# Altium footprint library Power Management Linear Regulator.PcbLib: 77 footprints (part 1 of 5)
Each footprint in its own frame and in the unit in brackets; x right, y up, seen from the top. Pads: shape width x height; smd on the part's side, far side on the other; paste and mask are expansions set on the pad; w line width, h text height; cw(c..) or ccw(c..) is an arc to the next point about the centre after c.
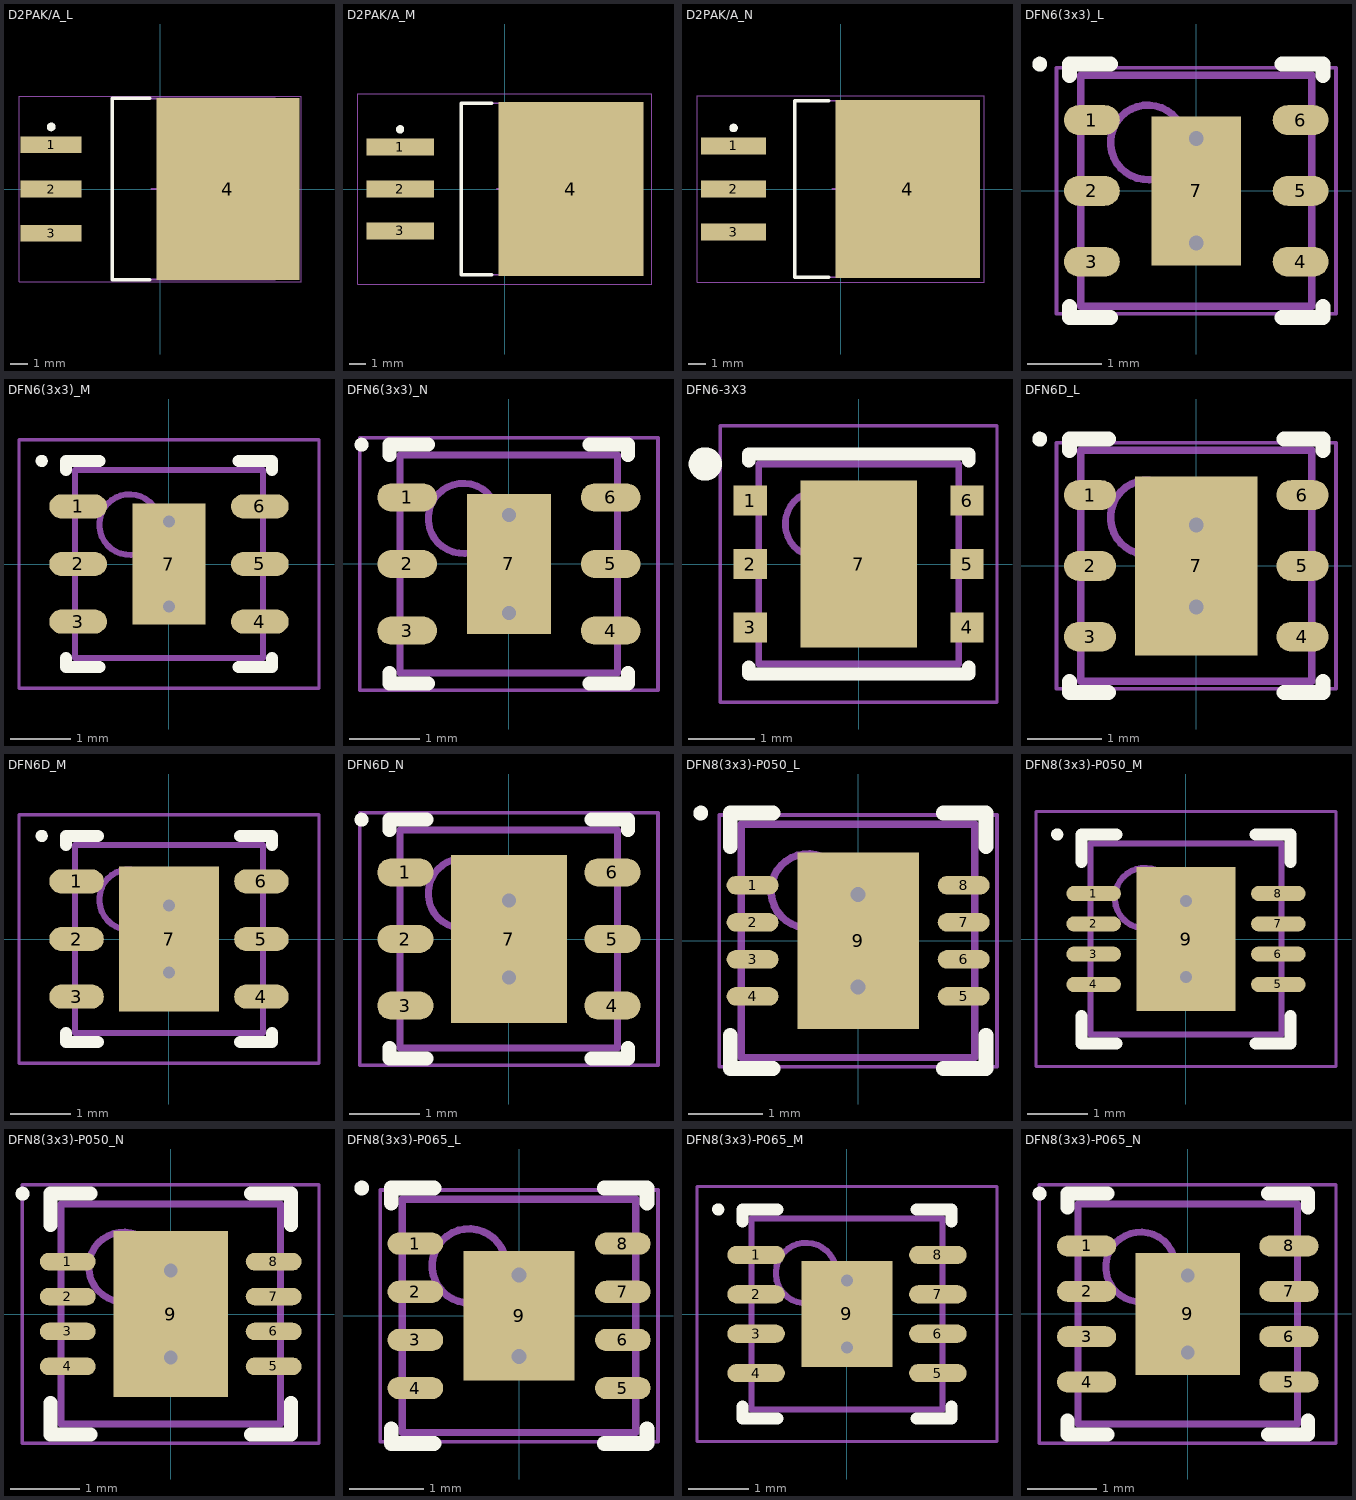
[diagram p0: the footprints below, top view; thin cyan lines are the x and y axes]

## D2PAK/A_L [mm] "D2-PAK, 4-Leads, Body 9.2x10.2mm, Pitch 2.54mm, Lead Span 15.4mm, IPC High Density"
height 4.6
pads (4):
  rect 3.5x0.95 smd: 1(-6.25,2.54) 2(-6.25,0) 3(-6.25,-2.54)
  rect 8.2x10.45 smd: 4(3.9,0)
Top Overlay:
  circle w0.25: c-6.25,3.565 r0.125
  lines w0.2: -0.6,-5.2 -2.75,-5.2 -2.75,5.2 -0.6,5.2
Mechanical 13:
  lines w0.1: -2.75,-5.2 6.6,-5.2 6.6,5.2 -2.75,5.2 -2.75,-5.2
Mechanical 15:
  lines w0.05: -8.1,-5.325 8.1,-5.325 8.1,5.325 -8.1,5.325 -8.1,-5.325
  lines w0.1: -0.5,0 0.5,0 ; 0,-0.5 0,0.5

## D2PAK/A_M [mm] "D2-PAK, 4-Leads, Body 9.2x10.2mm, Pitch 2.54mm, Lead Span 15.4mm, IPC Low Density"
height 4.6
pads (4):
  rect 4.1x1.05 smd: 1(-6.35,2.54) 2(-6.35,0) 3(-6.35,-2.54)
  rect 8.8x10.55 smd: 4(4,0)
Top Overlay:
  circle w0.25: c-6.35,3.615 r0.125
  lines w0.2: -0.8,-5.2 -2.65,-5.2 -2.65,5.2 -0.8,5.2
Mechanical 13:
  lines w0.1: -2.65,-5.2 -2.65,5.2 6.7,5.2 6.7,-5.2 -2.65,-5.2
Mechanical 15:
  lines w0.05: -8.9,-5.775 -8.9,5.775 8.9,5.775 8.9,-5.775 -8.9,-5.775
  lines w0.1: -0.5,0 0.5,0 ; 0,-0.5 0,0.5
3D body: height 4.6, standoff 0.03, extent -2.65,-5.2 6.7,5.2

## D2PAK/A_N [mm] "D2-PAK, 4-Leads, Body 9.2x10.2mm, Pitch 2.54mm, Lead Span 15.4mm, IPC Medium Density"
height 4.6
pads (4):
  rect 3.8x1 smd: 1(-6.3,2.54) 2(-6.3,0) 3(-6.3,-2.54)
  rect 8.5x10.5 smd: 4(3.95,0)
Top Overlay:
  circle w0.25: c-6.3,3.59 r0.125
  lines w0.2: -0.7,-5.2 -2.7,-5.2 -2.7,5.2 -0.7,5.2
Mechanical 13:
  lines w0.1: -2.7,-5.2 -2.7,5.2 6.65,5.2 6.65,-5.2 -2.7,-5.2
Mechanical 15:
  lines w0.05: -8.45,-5.5 -8.45,5.5 8.45,5.5 8.45,-5.5 -8.45,-5.5
  lines w0.1: -0.5,0 0.5,0 ; 0,-0.5 0,0.5
3D body: height 4.6, standoff 0.03, extent -2.7,-5.2 6.65,5.2

## DFN6(3x3)_L [mm] "SON, 6-Leads, Body 3x3mm, Pitch 0.95mm, Thermal Pad 2x1.2mm, IPC High Density"
height 1
pads (7):
  oval 0.75x0.4 smd: 1(-1.4,0.95) 2(-1.4,0) 3(-1.4,-0.95) 4(1.4,-0.95) 5(1.4,0) 6(1.4,0.95)
  rect 1.2x2 smd paste-0.6 mask+0.051: 7(0,0)
via 0,0.7 diameter 0.5 hole 0.2
via 0,-0.7 diameter 0.5 hole 0.2
Top Overlay:
  circle w0.1: c-2.1,1.7 r0.05
  lines w0.2: -1.7,-1.55 -1.7,-1.7 -1.15,-1.7 ; -1.7,1.55 -1.7,1.7 -1.15,1.7 ; 1.15,-1.7 1.7,-1.7 1.7,-1.55 ; 1.15,1.7 1.7,1.7 1.7,1.55
Top Paste:
  rectangle: -0.57,-0.95 0.57,0.95
Mechanical 13:
  circle w0.1: c-0.65,0.65 r0.5
  lines w0.1: -1.55,-1.55 -1.55,1.55 1.55,1.55 1.55,-1.55 -1.55,-1.55
Mechanical 15:
  lines w0.05: -1.875,-1.65 -1.875,1.65 1.875,1.65 1.875,-1.65 -1.875,-1.65
  lines w0.1: -0.5,0 0.5,0 ; 0,-0.5 0,0.5

## DFN6(3x3)_M [mm] "SON, 6-Leads, Body 3x3mm, Pitch 0.95mm, Thermal Pad 2x1.2mm, IPC Low Density"
height 1
pads (7):
  oval 0.95x0.4 smd: 1(-1.5,0.95) 2(-1.5,0) 3(-1.5,-0.95) 4(1.5,-0.95) 5(1.5,0) 6(1.5,0.95)
  rect 1.2x2 smd paste-0.6 mask+0.051: 7(0,0)
via 0,0.7 diameter 0.5 hole 0.2
via 0,-0.7 diameter 0.5 hole 0.2
Top Overlay:
  circle w0.1: c-2.1,1.7 r0.05
  lines w0.2: -1.7,-1.55 -1.7,-1.7 -1.15,-1.7 ; -1.7,1.55 -1.7,1.7 -1.15,1.7 ; 1.15,-1.7 1.7,-1.7 1.7,-1.55 ; 1.15,1.7 1.7,1.7 1.7,1.55
Top Paste:
  rectangle: -0.57,-0.95 0.57,0.95
Mechanical 13:
  circle w0.1: c-0.65,0.65 r0.5
  lines w0.1: -1.55,-1.55 -1.55,1.55 1.55,1.55 1.55,-1.55 -1.55,-1.55
Mechanical 15:
  lines w0.05: -2.475,-2.05 -2.475,2.05 2.475,2.05 2.475,-2.05 -2.475,-2.05
  lines w0.1: -0.5,0 0.5,0 ; 0,-0.5 0,0.5
3D body: height 1, standoff 0, extent -1.55,-1.55 1.55,1.55

## DFN6(3x3)_N [mm] "SON, 6-Leads, Body 3x3mm, Pitch 0.95mm, Thermal Pad 2x1.2mm, IPC Medium Density"
height 1
pads (7):
  oval 0.85x0.4 smd: 1(-1.45,0.95) 2(-1.45,0) 3(-1.45,-0.95) 4(1.45,-0.95) 5(1.45,0) 6(1.45,0.95)
  rect 1.2x2 smd paste-0.6 mask+0.051: 7(0,0)
via 0,0.7 diameter 0.5 hole 0.2
via 0,-0.7 diameter 0.5 hole 0.2
Top Overlay:
  circle w0.1: c-2.1,1.7 r0.05
  lines w0.2: -1.7,-1.55 -1.7,-1.7 -1.15,-1.7 ; -1.7,1.55 -1.7,1.7 -1.15,1.7 ; 1.15,-1.7 1.7,-1.7 1.7,-1.55 ; 1.15,1.7 1.7,1.7 1.7,1.55
Top Paste:
  rectangle: -0.57,-0.95 0.57,0.95
Mechanical 13:
  circle w0.1: c-0.65,0.65 r0.5
  lines w0.1: -1.55,-1.55 1.55,-1.55 1.55,1.55 -1.55,1.55 -1.55,-1.55
Mechanical 15:
  lines w0.05: -2.125,-1.8 2.125,-1.8 2.125,1.8 -2.125,1.8 -2.125,-1.8
  lines w0.1: -0.5,0 0.5,0 ; 0,-0.5 0,0.5
3D body: height 1, standoff 0, extent -1.55,-1.55 1.55,1.55

## DFN6-3X3 [mm] "DFN 6-Leads, Body 3.00x3.00mm, Pitch 0.95mm, Thermal Pad 1.75x2.50mm, IPC Medium Density"
height 0.8
pads (7):
  rect 0.5x0.45 smd: 1(-1.625,0.95) 2(-1.625,0) 3(-1.625,-0.95) 4(1.625,-0.95) 5(1.625,0) 6(1.625,0.95)
  rect 1.75x2.5 smd: 7(0,0)
Top Overlay:
  circle w0.25: c-2.3,1.5 r0.125
  lines w0.2: -1.651,-1.65 1.65,-1.65 1.65,-1.55 ; -1.65,-1.65 -1.65,-1.55 ; -1.65,1.55 -1.65,1.65 1.651,1.65 ; 1.65,1.55 1.65,1.65
Mechanical 13:
  circle w0.1: c-0.6,0.6 r0.5
  lines w0.1: -1.5,-1.5 -1.5,1.5 1.5,1.5 1.5,-1.5 -1.5,-1.5
Mechanical 15:
  lines w0.05: -2.075,-2.075 -2.075,2.075 2.075,2.075 2.075,-2.075 -2.075,-2.075
  lines w0.1: -0.5,0 0.5,0 ; 0,-0.5 0,0.5
3D body "DFN6-3X3.step": height 0.8, standoff 0, extent -1.501,-1.5 1.501,1.5

## DFN6D_L [mm] "SON, 6-Leads, Body 3x3mm, Pitch 0.95mm, Thermal Pad 2.4x1.65mm, IPC High Density"
height 0.95
pads (7):
  oval 0.7x0.4 smd: 1(-1.425,0.95) 2(-1.425,0) 3(-1.425,-0.95) 4(1.425,-0.95) 5(1.425,0) 6(1.425,0.95)
  rect 1.65x2.4 smd: 7(0,0)
via 0,0.55 diameter 0.5 hole 0.2
via 0,-0.55 diameter 0.5 hole 0.2
Top Overlay:
  circle w0.1: c-2.1,1.7 r0.05
  lines w0.2: -1.7,-1.55 -1.7,-1.7 -1.175,-1.7 ; -1.7,1.55 -1.7,1.7 -1.175,1.7 ; 1.175,-1.7 1.7,-1.7 1.7,-1.55 ; 1.175,1.7 1.7,1.7 1.7,1.55
Mechanical 13:
  circle w0.1: c-0.65,0.65 r0.5
  lines w0.1: -1.55,-1.55 -1.55,1.55 1.55,1.55 1.55,-1.55 -1.55,-1.55
Mechanical 15:
  lines w0.05: -1.875,-1.65 -1.875,1.65 1.875,1.65 1.875,-1.65 -1.875,-1.65
  lines w0.1: -0.5,0 0.5,0 ; 0,-0.5 0,0.5
3D body: height 0.95, standoff 0, extent -1.55,-1.55 1.55,1.55

## DFN6D_M [mm] "SON, 6-Leads, Body 3x3mm, Pitch 0.95mm, Thermal Pad 2.4x1.65mm, IPC Low Density"
height 0.95
pads (7):
  oval 0.9x0.4 smd: 1(-1.525,0.95) 2(-1.525,0) 3(-1.525,-0.95) 4(1.525,-0.95) 5(1.525,0) 6(1.525,0.95)
  rect 1.65x2.4 smd: 7(0,0)
via 0,0.55 diameter 0.5 hole 0.2
via 0,-0.55 diameter 0.5 hole 0.2
Top Overlay:
  circle w0.1: c-2.1,1.7 r0.05
  lines w0.2: -1.7,-1.55 -1.7,-1.7 -1.175,-1.7 ; -1.7,1.55 -1.7,1.7 -1.175,1.7 ; 1.175,-1.7 1.7,-1.7 1.7,-1.55 ; 1.175,1.7 1.7,1.7 1.7,1.55
Mechanical 13:
  circle w0.1: c-0.65,0.65 r0.5
  lines w0.1: -1.55,-1.55 -1.55,1.55 1.55,1.55 1.55,-1.55 -1.55,-1.55
Mechanical 15:
  lines w0.05: -2.475,-2.05 -2.475,2.05 2.475,2.05 2.475,-2.05 -2.475,-2.05
  lines w0.1: -0.5,0 0.5,0 ; 0,-0.5 0,0.5
3D body: height 0.95, standoff 0, extent -1.55,-1.55 1.55,1.55

## DFN6D_N [mm] "SON, 6-Leads, Body 3x3mm, Pitch 0.95mm, Thermal Pad 2.4x1.65mm, IPC Medium Density"
height 0.95
pads (7):
  oval 0.8x0.4 smd: 1(-1.475,0.95) 2(-1.475,0) 3(-1.475,-0.95) 4(1.475,-0.95) 5(1.475,0) 6(1.475,0.95)
  rect 1.65x2.4 smd: 7(0,0)
via 0,-0.55 diameter 0.5 hole 0.2
via 0,0.55 diameter 0.5 hole 0.2
Top Overlay:
  circle w0.1: c-2.1,1.7 r0.05
  lines w0.2: -1.7,-1.55 -1.7,-1.7 -1.175,-1.7 ; -1.7,1.55 -1.7,1.7 -1.175,1.7 ; 1.175,-1.7 1.7,-1.7 1.7,-1.55 ; 1.175,1.7 1.7,1.7 1.7,1.55
Mechanical 13:
  circle w0.1: c-0.65,0.65 r0.5
  lines w0.1: -1.55,-1.55 1.55,-1.55 1.55,1.55 -1.55,1.55 -1.55,-1.55
Mechanical 15:
  lines w0.05: -2.125,-1.8 2.125,-1.8 2.125,1.8 -2.125,1.8 -2.125,-1.8
  lines w0.1: -0.5,0 0.5,0 ; 0,-0.5 0,0.5
3D body: height 0.95, standoff 0, extent -1.55,-1.55 1.55,1.55

## DFN8(3x3)-P050_L [mm] "SON, 8-Leads, Body 3x3mm, Pitch 0.5mm, Thermal Pad 2.38x1.64mm, IPC High Density"
height 1
pads (9):
  oval 0.7x0.25 smd: 1(-1.425,0.75) 2(-1.425,0.25) 3(-1.425,-0.25) 4(-1.425,-0.75) 5(1.425,-0.75) 6(1.425,-0.25) 7(1.425,0.25) 8(1.425,0.75)
  rect 1.64x2.38 smd paste-0.82: 9(0,0)
via 0,0.625 diameter 0.5 hole 0.2
via 0,-0.625 diameter 0.5 hole 0.2
Top Overlay:
  circle w0.1: c-2.125,1.725 r0.05
  lines w0.2: -1.725,-1.275 -1.725,-1.725 -1.15,-1.725 ; -1.725,1.275 -1.725,1.725 -1.15,1.725 ; 1.15,-1.725 1.725,-1.725 1.725,-1.275 ; 1.15,1.725 1.725,1.725 1.725,1.275
Top Paste:
  rectangle: -0.725,-1.15 0.725,-0.725
  rectangle: -0.725,-0.525 0.725,-0.1
  rectangle: -0.725,0.725 0.725,1.15
  rectangle: -0.725,0.1 0.725,0.525
Mechanical 13:
  circle w0.1: c-0.675,0.675 r0.5
  lines w0.1: -1.575,-1.575 1.575,-1.575 1.575,1.575 -1.575,1.575 -1.575,-1.575
Mechanical 15:
  lines w0.05: -1.875,-1.7 1.875,-1.7 1.875,1.7 -1.875,1.7 -1.875,-1.7
  lines w0.1: -0.5,0 0.5,0 ; 0,-0.5 0,0.5
3D body: height 1, standoff 0, extent -1.575,-1.575 1.575,1.575

## DFN8(3x3)-P050_M [mm] "SON, 8-Leads, Body 3x3mm, Pitch 0.5mm, Thermal Pad 2.38x1.64mm, IPC Low Density"
height 1
pads (9):
  oval 0.9x0.25 smd: 1(-1.525,0.75) 2(-1.525,0.25) 3(-1.525,-0.25) 4(-1.525,-0.75) 5(1.525,-0.75) 6(1.525,-0.25) 7(1.525,0.25) 8(1.525,0.75)
  rect 1.64x2.38 smd paste-0.82: 9(0,0)
via 0,0.625 diameter 0.5 hole 0.2
via 0,-0.625 diameter 0.5 hole 0.2
Top Overlay:
  circle w0.1: c-2.125,1.725 r0.05
  lines w0.2: -1.725,-1.275 -1.725,-1.725 -1.15,-1.725 ; -1.725,1.275 -1.725,1.725 -1.15,1.725 ; 1.15,-1.725 1.725,-1.725 1.725,-1.275 ; 1.15,1.725 1.725,1.725 1.725,1.275
Top Paste:
  rectangle: -0.725,-1.15 0.725,-0.725
  rectangle: -0.725,-0.525 0.725,-0.1
  rectangle: -0.725,0.725 0.725,1.15
  rectangle: -0.725,0.1 0.725,0.525
Mechanical 13:
  circle w0.1: c-0.675,0.675 r0.5
  lines w0.1: -1.575,-1.575 -1.575,1.575 1.575,1.575 1.575,-1.575 -1.575,-1.575
Mechanical 15:
  lines w0.05: -2.475,-2.1 -2.475,2.1 2.475,2.1 2.475,-2.1 -2.475,-2.1
  lines w0.1: -0.5,0 0.5,0 ; 0,-0.5 0,0.5
3D body: height 1, standoff 0, extent -1.575,-1.575 1.575,1.575

## DFN8(3x3)-P050_N [mm] "SON, 8-Leads, Body 3x3mm, Pitch 0.5mm, Thermal Pad 2.38x1.64mm, IPC Medium Density"
height 1
pads (9):
  oval 0.8x0.25 smd: 1(-1.475,0.75) 2(-1.475,0.25) 3(-1.475,-0.25) 4(-1.475,-0.75) 5(1.475,-0.75) 6(1.475,-0.25) 7(1.475,0.25) 8(1.475,0.75)
  rect 1.64x2.38 smd paste-0.82: 9(0,0)
via 0,0.625 diameter 0.5 hole 0.2
via 0,-0.625 diameter 0.5 hole 0.2
Top Overlay:
  circle w0.1: c-2.125,1.725 r0.05
  lines w0.2: -1.725,-1.275 -1.725,-1.725 -1.15,-1.725 ; -1.725,1.275 -1.725,1.725 -1.15,1.725 ; 1.15,-1.725 1.725,-1.725 1.725,-1.275 ; 1.15,1.725 1.725,1.725 1.725,1.275
Top Paste:
  rectangle: -0.725,-1.15 0.725,-0.725
  rectangle: -0.725,-0.525 0.725,-0.1
  rectangle: -0.725,0.725 0.725,1.15
  rectangle: -0.725,0.1 0.725,0.525
Mechanical 13:
  circle w0.1: c-0.675,0.675 r0.5
  lines w0.1: -1.575,-1.575 1.575,-1.575 1.575,1.575 -1.575,1.575 -1.575,-1.575
Mechanical 15:
  lines w0.05: -2.125,-1.85 2.125,-1.85 2.125,1.85 -2.125,1.85 -2.125,-1.85
  lines w0.1: -0.5,0 0.5,0 ; 0,-0.5 0,0.5
3D body: height 1, standoff 0, extent -1.575,-1.575 1.575,1.575

## DFN8(3x3)-P065_L [mm] "SON, 8-Leads, Body 3x3mm, Pitch 0.65mm, Thermal Pad 1.75x1.5mm, IPC High Density"
height 1
pads (9):
  oval 0.75x0.3 smd: 1(-1.4,0.975) 2(-1.4,0.325) 3(-1.4,-0.325) 4(-1.4,-0.975) 5(1.4,-0.975) 6(1.4,-0.325) 7(1.4,0.325) 8(1.4,0.975)
  rect 1.5x1.75 smd: 9(0,0)
via 0,0.55 diameter 0.5 hole 0.2
via 0,-0.55 diameter 0.5 hole 0.2
Top Overlay:
  circle w0.1: c-2.125,1.725 r0.05
  lines w0.2: -1.725,-1.525 -1.725,-1.725 -1.15,-1.725 ; -1.725,1.525 -1.725,1.725 -1.15,1.725 ; 1.15,-1.725 1.725,-1.725 1.725,-1.525 ; 1.15,1.725 1.725,1.725 1.725,1.525
Mechanical 13:
  circle w0.1: c-0.675,0.675 r0.5
  lines w0.1: -1.575,-1.575 -1.575,1.575 1.575,1.575 1.575,-1.575 -1.575,-1.575
Mechanical 15:
  lines w0.05: -1.875,-1.7 -1.875,1.7 1.875,1.7 1.875,-1.7 -1.875,-1.7
  lines w0.1: -0.5,0 0.5,0 ; 0,-0.5 0,0.5
3D body: height 1, standoff 0, extent -1.575,-1.575 1.575,1.575

## DFN8(3x3)-P065_M [mm] "SON, 8-Leads, Body 3x3mm, Pitch 0.65mm, Thermal Pad 1.75x1.5mm, IPC Low Density"
height 1
pads (9):
  oval 0.95x0.3 smd: 1(-1.5,0.975) 2(-1.5,0.325) 3(-1.5,-0.325) 4(-1.5,-0.975) 5(1.5,-0.975) 6(1.5,-0.325) 7(1.5,0.325) 8(1.5,0.975)
  rect 1.5x1.75 smd: 9(0,0)
via 0,-0.55 diameter 0.5 hole 0.2
via 0,0.55 diameter 0.5 hole 0.2
Top Overlay:
  circle w0.1: c-2.125,1.725 r0.05
  lines w0.2: -1.725,-1.525 -1.725,-1.725 -1.15,-1.725 ; -1.725,1.525 -1.725,1.725 -1.15,1.725 ; 1.15,-1.725 1.725,-1.725 1.725,-1.525 ; 1.15,1.725 1.725,1.725 1.725,1.525
Mechanical 13:
  circle w0.1: c-0.675,0.675 r0.5
  lines w0.1: -1.575,-1.575 1.575,-1.575 1.575,1.575 -1.575,1.575 -1.575,-1.575
Mechanical 15:
  lines w0.05: -2.475,-2.1 2.475,-2.1 2.475,2.1 -2.475,2.1 -2.475,-2.1
  lines w0.1: -0.5,0 0.5,0 ; 0,-0.5 0,0.5
3D body: height 1, standoff 0, extent -1.575,-1.575 1.575,1.575

## DFN8(3x3)-P065_N [mm] "SON, 8-Leads, Body 3x3mm, Pitch 0.65mm, Thermal Pad 1.75x1.5mm, IPC Medium Density"
height 1
pads (9):
  oval 0.85x0.3 smd: 1(-1.45,0.975) 2(-1.45,0.325) 3(-1.45,-0.325) 4(-1.45,-0.975) 5(1.45,-0.975) 6(1.45,-0.325) 7(1.45,0.325) 8(1.45,0.975)
  rect 1.5x1.75 smd: 9(0,0)
via 0,-0.55 diameter 0.5 hole 0.2
via 0,0.55 diameter 0.5 hole 0.2
Top Overlay:
  circle w0.1: c-2.125,1.725 r0.05
  lines w0.2: -1.725,-1.525 -1.725,-1.725 -1.15,-1.725 ; -1.725,1.525 -1.725,1.725 -1.15,1.725 ; 1.15,-1.725 1.725,-1.725 1.725,-1.525 ; 1.15,1.725 1.725,1.725 1.725,1.525
Mechanical 13:
  circle w0.1: c-0.675,0.675 r0.5
  lines w0.1: -1.575,-1.575 1.575,-1.575 1.575,1.575 -1.575,1.575 -1.575,-1.575
Mechanical 15:
  lines w0.05: -2.125,-1.85 2.125,-1.85 2.125,1.85 -2.125,1.85 -2.125,-1.85
  lines w0.1: -0.5,0 0.5,0 ; 0,-0.5 0,0.5
3D body: height 1, standoff 0, extent -1.575,-1.575 1.575,1.575